# EAGLE library part 15EDGRC-3.81-13P (library con-degson)
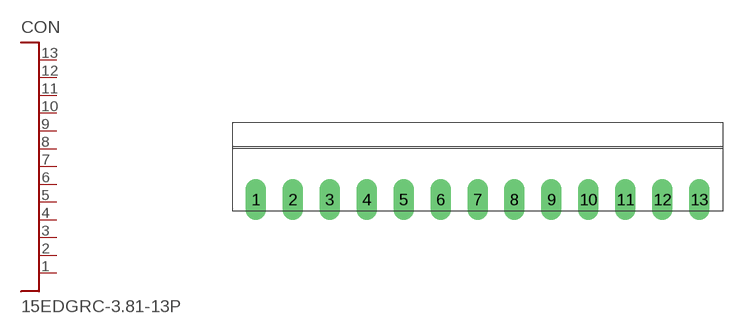
[diagram p30: symbol with the pads of 15EDGRC-3.81-13P; footprint 15EDGRC-3.81-13P]

Designator prefix CON

## 15EDGRC-3.81-13P  [15EDGRC-3.81-13P]
1  P$1
2  P$2
3  P$3
4  P$4
5  P$5
6  P$6
7  P$7
8  P$8
9  P$9
10  P$10
11  P$11
12  P$12
13  P$13

## Footprint 15EDGRC-3.81-13P (pad centres in mm)
drill 1.4 long: 1 -22.86,0; 2 -19.05,0; 3 -15.24,0; 4 -11.43,0; 5 -7.62,0; 6 -3.81,0; 7 0,0; 8 3.81,0; 9 7.62,0; 10 11.43,0; 11 15.24,0; 12 19.05,0; 13 22.86,0